# Altium footprint library JACK.PCBLIB: 92 footprints (part 3 of 6)
Each footprint in its own frame and in the unit in brackets; x right, y up, seen from the top. Pads: shape width x height; smd on the part's side, far side on the other; paste and mask are expansions set on the pad; w line width, h text height; cw(c..) or ccw(c..) is an arc to the next point about the centre after c.
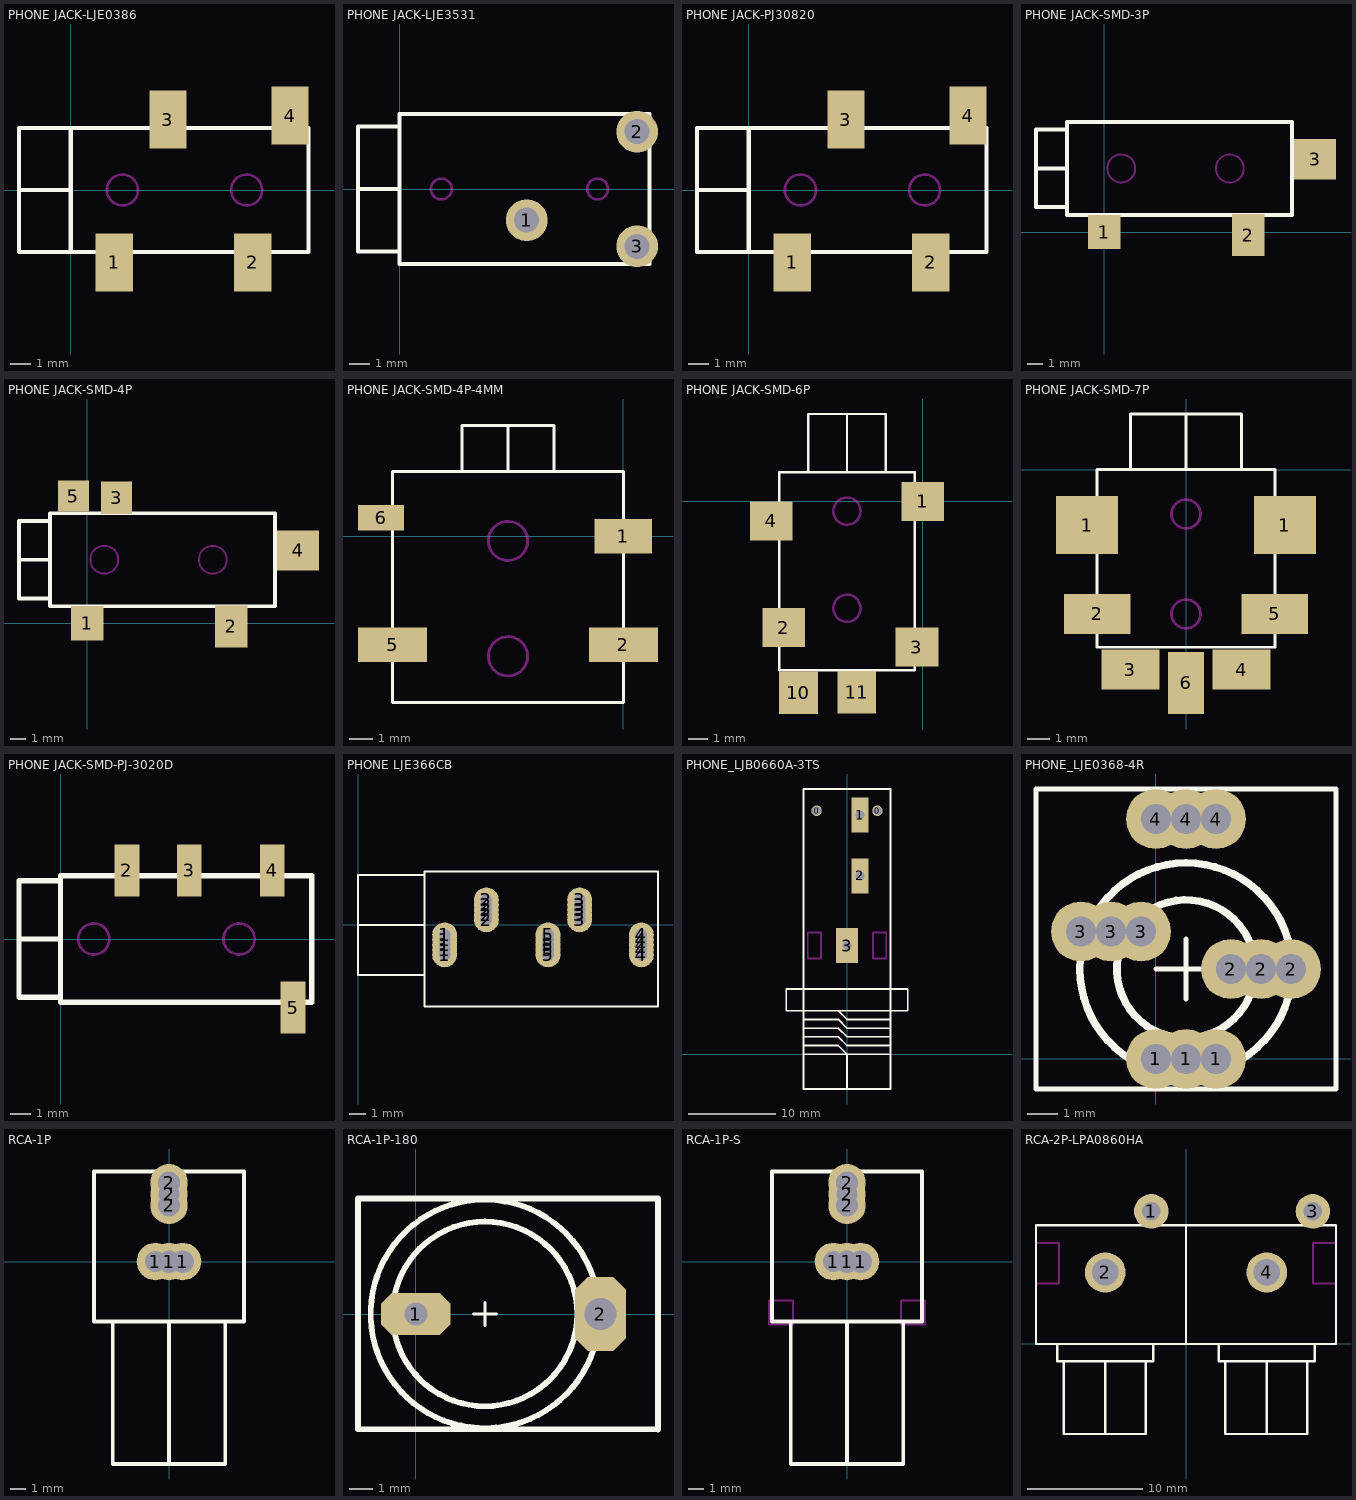
[diagram p2: the footprints below, top view; thin cyan lines are the x and y axes]

## PHONE JACK-LJE0386 [mm]
pads (4):
  rect 1.8x2.8 smd: 1(2.1,-3.5) 2(8.8,-3.5) 3(4.7,3.4) 4(10.6,3.6)
TopOverlay:
  lines w0.2: -2.5,0 0,0 ; 0,-3 -2.5,-3 -2.5,3 0,3 ; 0,-3 0,3 ; 0,-3 11.5,-3 11.5,3 0,3
KeepOutLayer:
  circle w0.127: c2.5,0 r0.75
  circle w0.127: c8.5,0 r0.75

## PHONE JACK-LJE3531 [mm]
pads (3):
  round 2 hole 1.2: 1(6.1,-1.5) 2(11.4,2.75) 3(11.4,-2.75)
TopOverlay:
  lines w0.2: -2,0 0,0 ; 0,-3 -2,-3 -2,3 0,3 ; 0,-3.6 0,3.6 12,3.6 12,-3.6 0,-3.6
KeepOutLayer:
  circle w0.127: c9.5,0 r0.5
  circle w0.127: c2,0 r0.5

## PHONE JACK-PJ30820 [mm]
pads (4):
  rect 1.8x2.8 smd: 1(2.1,-3.5) 2(8.8,-3.5) 3(4.7,3.4) 4(10.6,3.6)
TopOverlay:
  lines w0.2: -2.5,0 0,0 ; 0,-3 11.5,-3 11.5,3 0,3 ; 0,-3 0,3 ; 0,-3 -2.5,-3 -2.5,3 0,3
KeepOutLayer:
  circle w0.127: c8.5,0 r0.75
  circle w0.127: c2.5,0 r0.75

## PHONE JACK-SMD-3P [mm]
pads (3):
  rect 2.1x2.2 smd: 1(0,0)
  rect 2.1x2.7 smd: 2(9.3,-0.2)
  rect 2.7x2.6 smd: 3(13.6,4.7)
TopOverlay:
  lines w0.254: -2.4,1.6 -4.4,1.6 -4.4,4.1 ; -2.4,4.1 -4.4,4.1 ; -2.4,6.6 -4.4,6.6 -4.4,4.1 ; -2.4,1.1 12.1,1.1 12.1,7.1 -2.4,7.1 -2.4,1.1
KeepOutLayer:
  circle w0.127: c1.1,4.1 r0.9
  circle w0.127: c8.1,4.1 r0.9

## PHONE JACK-SMD-4P [mm]
pads (5):
  rect 2.1x2.2 smd: 1(0,0)
  rect 2.1x2.7 smd: 2(9.3,-0.2)
  rect 2x2.1 smd: 3(1.9,8.1)
  rect 2.7x2.6 smd: 4(13.6,4.7)
  rect 2x2 smd: 5(-0.9,8.2)
TopOverlay:
  lines w0.254: -2.4,1.6 -4.4,1.6 -4.4,4.1 ; -2.4,4.1 -4.4,4.1 ; -2.4,6.6 -4.4,6.6 -4.4,4.1 ; -2.4,1.1 -2.4,7.1 12.1,7.1 12.1,1.1 -2.4,1.1
KeepOutLayer:
  circle w0.127: c8.1,4.1 r0.9
  circle w0.127: c1.1,4.1 r0.9

## PHONE JACK-SMD-4P-4MM [mm]
pads (4):
  rect 2.5x1.5 smd: 1(0,0)
  rect 3x1.5 smd: 2(0,-4.7) 5(-10,-4.7)
  rect 2x1.1 smd: 6(-10.5,0.8)
TopOverlay:
  lines w0.127: -7,2.8 -7,4.8 -3,4.8 -3,2.8 ; -5,2.8 -5,4.8 ; -10,-7.2 0,-7.2 0,2.8 -10,2.8 -10,-7.2
KeepOutLayer:
  circle w0.127: c-5,-5.2 r0.85
  circle w0.127: c-5,-0.2 r0.85

## PHONE JACK-SMD-6P [mm]
pads (6):
  rect 2.2x2 smd: 1(0,0) 2(-7.15,-6.5) 3(-0.3,-7.5) 4(-7.8,-1)
  rect 2x2.2 smd: 10(-6.4,-9.845) 11(-3.4,-9.82)
TopOverlay:
  lines w0.127: -5.9,1.5 -5.9,4.5 -1.9,4.5 -1.9,1.5 ; -3.9,1.5 -3.9,4.5 ; -7.4,-8.7 -0.4,-8.7 -0.4,1.5 -7.4,1.5 -7.4,-8.7
KeepOutLayer:
  circle w0.127: c-3.9,-5.5 r0.7
  circle w0.127: c-3.9,-0.5 r0.7

## PHONE JACK-SMD-7P [mm]
pads (7):
  rect 2.8x2.6 smd: 1(-4.45,-2.5) 1(4.45,-2.5)
  rect 3x1.8 smd: 2(-4,-6.5) 5(4,-6.5)
  rect 2.6x1.8 smd: 3(-2.5,-9) 4(2.5,-9)
  rect 1.6x2.8 smd: 6(0,-9.6)
TopOverlay:
  lines w0.127: -2.5,0 -2.5,2.5 2.5,2.5 2.5,0 ; 0,0 0,2.5 ; -4,-8 4,-8 4,0 -4,0 -4,-8
KeepOutLayer:
  circle w0.127: c0,-6.5 r0.65
  circle w0.127: c0,-2 r0.65

## PHONE JACK-SMD-PJ-3020D [mm]
pads (4):
  rect 1.2x2.5 smd: 2(3.2,3.3) 3(6.2,3.3) 4(10.2,3.3) 5(11.2,-3.3)
TopOverlay:
  lines w0.254: -2,0 0,0 ; 0,-2.8 -2,-2.8 -2,2.8 0,2.8 ; 12.1,-3.05 0,-3.05 0,3.05 12.1,3.05 ; 12.1,-3 12.1,3
KeepOutLayer:
  circle w0.127: c8.6,0 r0.75
  circle w0.127: c1.6,0 r0.75

## PHONE LJE366CB [mm]
pads (25):
  round 1.5 hole 0.7: 1(5.2,-1.8) 1(5.2,-1.5) 1(5.2,-1.2) 1(5.2,-0.9) 1(5.2,-0.6) 2(7.7,0.3) 2(7.7,0.6) 2(7.7,0.9) 2(7.7,1.2) 2(7.7,1.5) 3(13.3,0.3) 3(13.3,0.6) 3(13.3,0.9) 3(13.3,1.2) 3(13.3,1.5) 4(17,-1.8) 4(17,-1.5) 4(17,-1.2) 4(17,-0.9) 4(17,-0.6) 5(11.4,-1.8) 5(11.4,-1.5) 5(11.4,-1.2) 5(11.4,-0.9) 5(11.4,-0.6)
TopOverlay:
  lines w0.127: 0,0 4,0 ; 4,-3 0,-3 0,3 4,3 ; 4,-4.9 18,-4.9 18,3.2 4,3.2 4,-4.9

## PHONE_LJB0660A-3TS [mm]
pads (5):
  round 1.2 hole 1: 0(-3.5,28) 0(3.5,28)
  rect 2x4 hole 1: 1(1.5,27.5) 2(1.5,20.5)
  rect 2.5x4 hole 1: 3(0,12.5)
TopOverlay:
  lines w0.2: -5,0 5,0 ; -5,1 -1,1 0,0 0,-4 ; -5,2 -1,2 0,1 5,1 ; -5,3 -1,3 0,2 5,2 ; -5,4 -1,4 0,3 5,3 ; -1,5 0,4 5,4 ; 0,-4 5,-4 5,5 5,30.5 -5,30.5 -5,5 -5,-4 0,-4 ; -7,5 -7,7.5 7,7.5 7,5 -7,5
KeepOutLayer:
  lines w0.2: -4.5,11 -4.5,14 -3,14 -3,11 -4.5,11 ; -0.5,11 -0.5,14 0.5,14 0.5,11 -0.5,11 ; 1,19 1,22 2,22 2,19 1,19 ; 1,26 1,29 2,29 2,26 1,26 ; 3,11 3,14 4.5,14 4.5,11 3,11

## PHONE_LJE0368-4R [mm]
pads (12):
  round 2 hole 1: 1(0,0) 1(1,0) 1(2,0) 2(2.5,3) 2(3.5,3) 2(4.5,3) 3(-2.5,4.25) 3(-1.5,4.25) 3(-0.5,4.25) 4(0,8) 4(1,8) 4(2,8)
TopOverlay:
  circle w0.254: c1,3 r3.536
  circle w0.254: c1,3 r2.305
  lines w0.152: 0,3 2,3 ; 1,2 1,4 ; -4,-1 6,-1 6,9 -4,9 -4,-1

## RCA-1P [mm]
pads (6):
  round 2.5 hole 1.4: 1(-0.9,0) 2(0,4.5)
  round 2.5 hole 1.5: 1(0,0) 1(0.9,0) 2(0,3.75) 2(0,5.25)
TopOverlay:
  lines w0.254: -3.75,-4.15 -3.75,-13.5 3.75,-13.5 3.75,-4 ; 0,-13.5 0,-4 ; -5,-4 5,-4 5,6 -5,6 -5,-4

## RCA-1P-180 [mm]
pads (2):
  oct 3x1.8 hole 1: 1(0,0)
  oct 2.2x3.2 hole 1.4: 2(8.001,0)
TopOverlay:
  circle w0.254: c2.993,0.004 r4
  circle w0.254: c2.993,0.004 r4.953
  lines w0.127: 2.493,0.004 3.493,0.004 ; 2.993,-0.496 2.993,0.504
  lines w0.254: 10.493,-5.004 10.493,5.004 -2.507,5.004 -2.507,-4.996 10.493,-4.996
KeepOutLayer:
  lines w0.127: -0.952,-0.408 cw(c-0.552,-0.008) -0.952,0.392 0.948,0.392 cw(c0.548,-0.008) 0.948,-0.408 -0.952,-0.408 ; 7.294,-0.932 ccw(c7.994,-0.232) 8.694,-0.932 8.694,0.968 ccw(c7.994,0.268) 7.294,0.968 7.294,-0.932

## RCA-1P-S [mm]
pads (6):
  round 2.5 hole 1.4: 1(-0.9,0) 2(0,4.5)
  round 2.5 hole 1.5: 1(0,0) 1(0.9,0) 2(0,3.75) 2(0,5.25)
TopOverlay:
  lines w0.254: -3.75,-4.15 -3.75,-13.5 3.75,-13.5 3.75,-4 ; 0,-13.5 0,-4 ; -5,-4 5,-4 5,6 -5,6 -5,-4
KeepOutLayer:
  lines w0.127: -5.2,-4.2 -5.2,-2.6 -3.6,-2.6 -3.6,-4.2 -5.2,-4.2 ; 3.6,-4.2 3.6,-2.6 5.2,-2.6 5.2,-4.2 3.6,-4.2

## RCA-2P-LPA0860HA [mm]
pads (4):
  round 3 hole 1.6: 1(-3,11.5) 3(11,11.5)
  round 3.5 hole 2.3: 2(-7,6.2) 4(7,6.2)
TopOverlay:
  lines w0.2: -11.15,0 -11.15,-1.5 -2.85,-1.5 -2.85,0 ; -10.6,-1.5 -10.6,-7.8 -3.5,-7.8 -3.5,-1.5 ; -7,-7.8 -7,-1.5 ; 0,0 0,10.3 ; 2.85,0 2.85,-1.5 11.15,-1.5 11.15,0 ; 3.4,-1.5 3.4,-7.8 10.5,-7.8 10.5,-1.5 ; 7,-7.8 7,-1.5 ; -13,0 -13,10.3 13,10.3 13,0 -13,0
KeepOutLayer:
  lines w0.2: -13,5.25 -13,8.75 -11,8.75 -11,5.25 -13,5.25 ; 11,5.25 13,5.25 13,8.75 11,8.75 11,5.25